# Altium schematic symbol library components.SchLib: 13 symbols
Pins are listed as number, name and electrical type; pins without a type are passive.

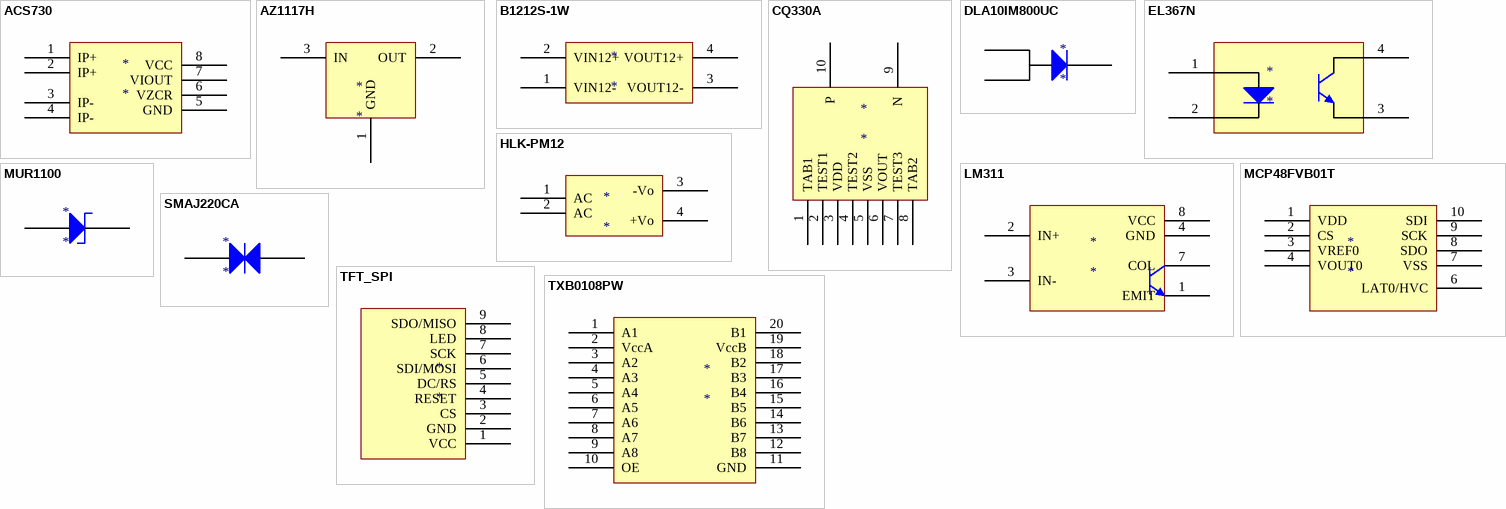
[diagram p0: symbols ACS730 to TXB0108PW]

## ACS730
designator *
footprint ACS730 (SOIC, 8-Leads, Body 4.9x3.9mm (max), Pitch 1.27mm, IPC Low Density)
pins: 1 IP+, 2 IP+, 3 IP-, 4 IP-, 5 GND, 6 VZCR, 7 VIOUT, 8 VCC

## AZ1117H
designator *
footprint AZ1117H
pins: 1 GND, 2 OUT, 3 IN

## B1212S-1W
designator *
footprint B0512S-1W
pins: 1 VIN12-, 2 VIN12+, 3 VOUT12-, 4 VOUT12+

## CQ330A
designator *
footprint CQ330A (TSOP, 24-Leads, Body 7.9x5.6mm (max), Pitch 0.65mm, IPC Low Density)
pins: 1 TAB1, 2 TEST1, 3 VDD, 4 TEST2, 5 VSS, 6 VOUT, 7 TEST3, 8 TAB2, 9 N, 10 P

## DLA10IM800UC
designator *
footprint DLA10IM800UC (D-PAK, 3-Pads, Body 6.3x6.8mm (max), IPC Low Density)
pins: 1, 3, 4

## EL367N
designator *
pins: 1 Anode, 2 Cathode, 3 Emitter, 4 Collector

## HLK-PM12
designator *
footprint HLK-PM01
pins: 1 AC, 2 AC, 3 -Vo, 4 +Vo

## LM311
designator *
pins: 1 EMIT, 2 IN+, 3 IN-, 4 GND, 7 COL, 8 VCC

## MCP48FVB01T
designator *
pins: 1 VDD, 2 CS, 3 VREF0, 4 VOUT0, 6 LAT0/HVC, 7 VSS, 8 SDO, 9 SCK, 10 SDI

## MUR1100
designator *
pins: 1, 2

## SMAJ220CA
designator *
footprint SMAJ220CA
pins: 1, 2

## TFT_SPI
designator *
footprint TFTLCD
pins: 1 VCC, 2 GND, 3 CS, 4 RESET, 5 DC/RS, 6 SDI/MOSI, 7 SCK, 8 LED, 9 SDO/MISO

## TXB0108PW
designator *
footprint TXB0108PW (TSOP, 20-Leads, Body 6.6x4.5mm (max), Pitch 0.65mm, IPC Low Density)
pins: 1 A1, 2 VccA, 3 A2, 4 A3, 5 A4, 6 A5, 7 A6, 8 A7, 9 A8, 10 OE, 11 GND, 12 B8, 13 B7, 14 B6, 15 B5, 16 B4, 17 B3, 18 B2, 19 VccB, 20 B1